# EAGLE library part HDC1000 (library myLib)
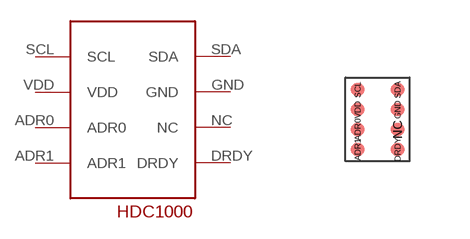
[diagram p6: symbol with the pads of HDC1000; footprint HDC1000]

Designator prefix -

## HDC1000  [HDC1000]
ADR0  ADR0
ADR1  ADR1
DRDY  DRDY
GND  GND
NC  NC
SCL  SCL
SDA  SDA
VDD  VDD

## Footprint HDC1000 (pad centres in mm)
smd 0.34 x 0.34: ADR0 -0.5,-0.24; ADR1 -0.5,-0.74; DRDY 0.5,-0.74; GND 0.5,0.26; NC 0.5,-0.24; SCL -0.5,0.76; SDA 0.5,0.76; VDD -0.5,0.26